# Altium footprint library ADXL345-EP.PcbLib: 1 footprints
Each footprint in its own frame and in the unit in brackets; x right, y up, seen from the top. Pads: shape width x height; smd on the part's side, far side on the other; paste and mask are expansions set on the pad; w line width, h text height; cw(c..) or ccw(c..) is an arc to the next point about the centre after c.
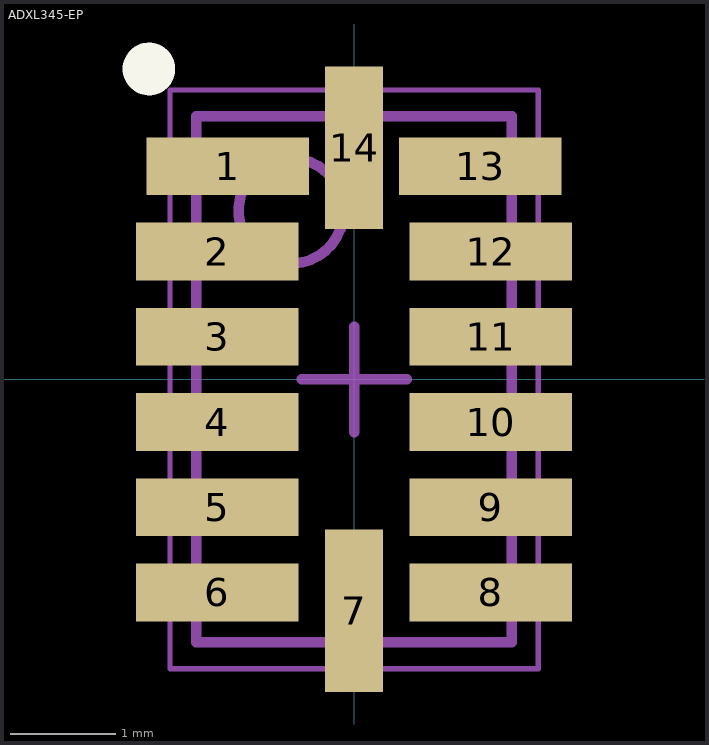
[diagram p0: the footprint, top view; thin cyan lines are the x and y axes]

## ADXL345-EP [mm] "PQFN, 14-Leads, Body 3,00x5,00mm, Pitch 0,80mm/0,81mm, IPC Medium Density"
height 1
pads (14):
  rect 1.545x0.55 smd: 1(-1.2,2.025) 2(-1.3,1.215) 3(-1.3,0.405) 4(-1.3,-0.405) 5(-1.3,-1.215) 6(-1.3,-2.025) 8(1.3,-2.025) 9(1.3,-1.215) 10(1.3,-0.405) 11(1.3,0.405) 12(1.3,1.215) 13(1.2,2.025)
  rect 0.55x1.545 smd: 7(0,-2.2) 14(0,2.2)
Top Overlay:
  circle w0.25: c-1.95,2.95 r0.125
Mechanical 13:
  circle w0.1: c-0.6,1.6 r0.5
  lines w0.1: -1.5,-2.5 1.5,-2.5 1.5,2.5 -1.5,2.5 -1.5,-2.5
Mechanical 15:
  lines w0.05: -1.75,-2.75 1.75,-2.75 1.75,2.75 -1.75,2.75 -1.75,-2.75
  lines w0.1: -0.5,0 0.5,0 ; 0,-0.5 0,0.5
3D body: height 1, standoff 0, extent -1.5,-2.5 1.5,2.5